# EAGLE library part MP26123DR-LF-Z (library SamacSys_Parts)
Battery Management 2A 24Vin 2-3 Cell Switching Charger Source: Datasheet <https://www.monolithicpower.com/pub/media/document/MP26123_r1.01.pdf>
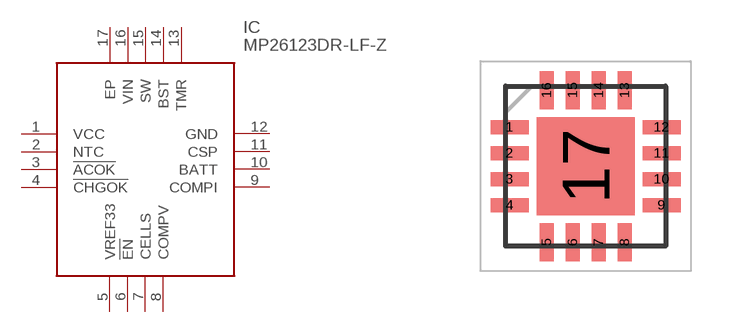
[diagram p24: symbol with the pads of QFN65P400X400X100-17N; footprint QFN65P400X400X100-17N]

Designator prefix IC

## MP26123DR-LF-Z (DESCRIPTION: Battery Management 2A 24Vin 2-3 Cell Switching Charger; HEIGHT: 1mm; MANUFACTURER_NAME: Monolithic Power Systems (MPS); MANUFACTURER_PART_NUMBER: MP26123DR-LF-Z; MOUSER_PART_NUMBER: 946-MP26123DRLFZ; MOUSER_PRICE-STOCK: https://www.mouser.co.uk/ProductDetail/Monolithic-Power-Systems-MPS/MP26123DR-LF-Z?qs=ddTkeYFZflVgOJRHHyrLxQ%3D%3D)  [QFN65P400X400X100-17N]
1  VCC
2  NTC
3  !ACOK
4  !CHGOK
5  VREF33
6  !EN
7  CELLS
8  COMPV
9  COMPI
10  BATT
11  CSP
12  GND
13  TMR
14  BST
15  SW
16  VIN
17  EP

## Footprint QFN65P400X400X100-17N (pad centres in mm)
QFN16 (4 x 4mm)
smd 0.95 x 0.35: 1 -1.9,0.975; 2 -1.9,0.325; 3 -1.9,-0.325; 4 -1.9,-0.975; 9 1.9,-0.975; 10 1.9,-0.325; 11 1.9,0.325; 12 1.9,0.975
smd 0.35 x 0.95: 5 -0.975,-1.9; 6 -0.325,-1.9; 7 0.325,-1.9; 8 0.975,-1.9; 13 0.975,1.9; 14 0.325,1.9; 15 -0.325,1.9; 16 -0.975,1.9
smd 2.45 x 2.45: 17 0,0